# EAGLE library part NE555? (library ic-logic)
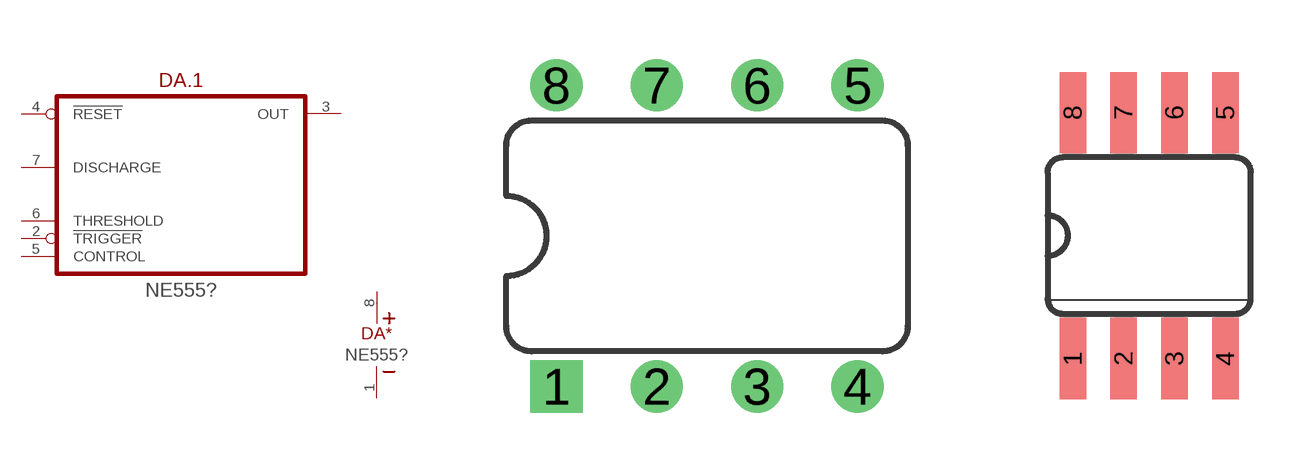
[diagram p3: symbol with the pads of DIP-8; footprints DIP-8, SO-8]

Designator prefix DA; gates .1=555 *=SUPPLY

## NE555P (MOUSER: 595-NE555P)  [DIP-8]
1  *:V-  pwr
2  .1:!TRIGGER
3  .1:OUT
4  .1:!RESET  in
5  .1:CONTROL
6  .1:THRESHOLD
7  .1:DISCHARGE
8  *:V+  pwr

## NE555D (MOUSER: 595-NE555D)  [SO-8]
Pads as for DIP-8

## Footprint DIP-8 (pad centres in mm)
drill 0.813 square: 1 -3.81,-3.81
drill 0.813: 2 -1.27,-3.81; 3 1.27,-3.81; 4 3.81,-3.81; 5 3.81,3.81; 6 1.27,3.81; 7 -1.27,3.81; 8 -3.81,3.81

## Footprint SO-8 (pad centres in mm)
smd 0.66 x 2.032: 1 -1.905,-3.073; 2 -0.635,-3.073; 3 0.635,-3.073; 4 1.905,-3.073; 5 1.905,3.073; 6 0.635,3.073; 7 -0.635,3.073; 8 -1.905,3.073